# Altium footprint library OpAmp_Pcb.PcbLib: 9 footprints
Each footprint in its own frame and in the unit in brackets; x right, y up, seen from the top. Pads: shape width x height; smd on the part's side, far side on the other; paste and mask are expansions set on the pad; w line width, h text height; cw(c..) or ccw(c..) is an arc to the next point about the centre after c.
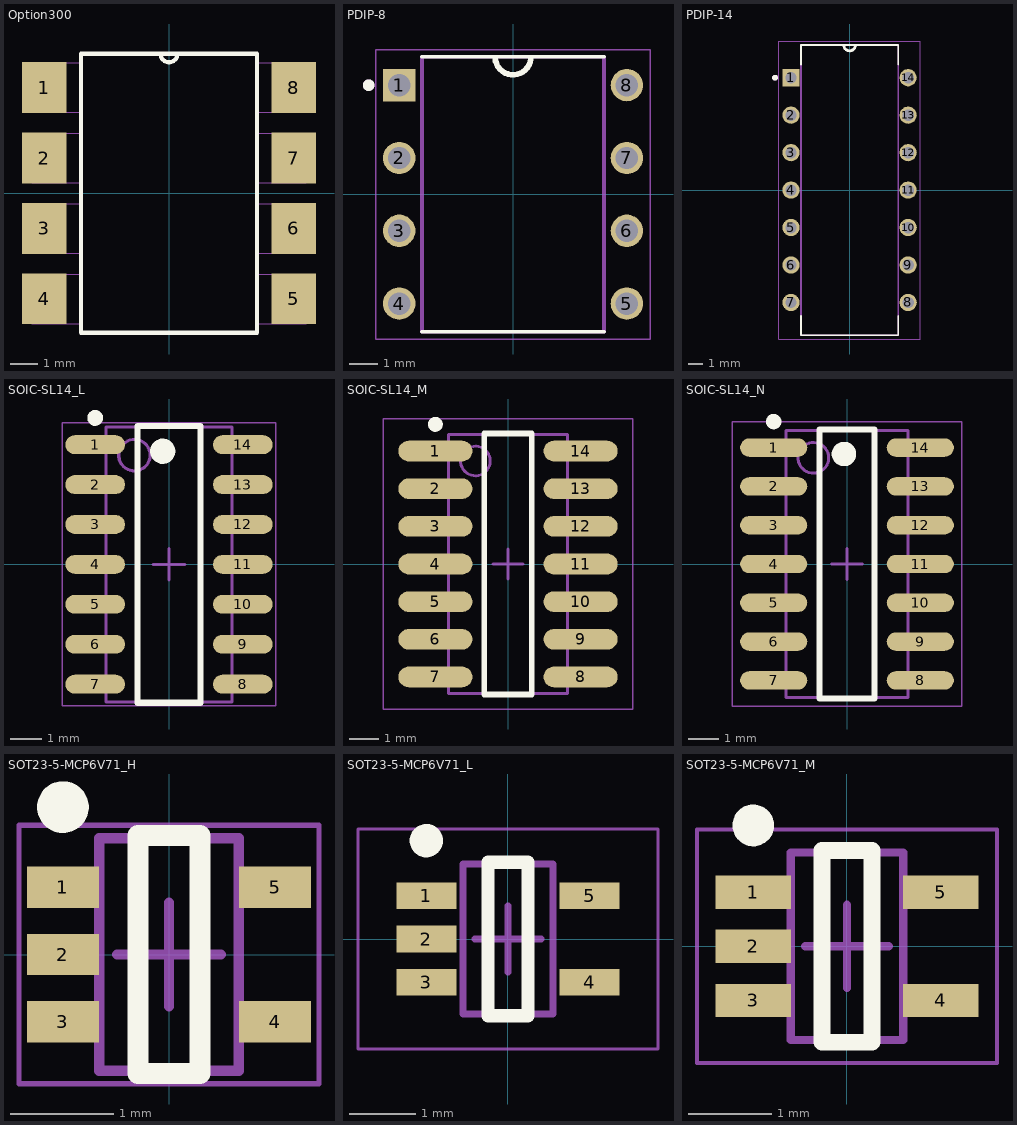
[diagram p0: the footprints below, top view; thin cyan lines are the x and y axes]

## Option300 [mil]
pads (8):
  rect 63x72 smd: 1(-177,150) 2(-177,50) 3(-177,-50) 4(-177,-150) 5(177,-150) 6(177,-50) 7(177,50) 8(177,150)
Top Overlay:
  lines w6: -12,198 ccw(c0,198) 12,198 ; -12,198 12,198 ; -12,198 -125,198 -125,-198 125,-198 125,198 12,198
Mechanical 13:
  lines w0: -12,198 ccw(c0,198) 12,198 ; -12,198 12,198 ; -12,198 -125,198 -125,-198 125,-198 125,198 12,198 ; -195,-185 -195,-115 -125,-115 -125,-185 -195,-185 ; -195,-85 -195,-15 -125,-15 -125,-85 -195,-85 ; -195,15 -195,85 -125,85 -125,15 -195,15 ; -195,115 -195,185 -125,185 -125,115 -195,115 ; 125,-185 125,-115 195,-115 195,-185 125,-185 ; 125,-85 125,-15 195,-15 195,-85 125,-85 ; 125,15 125,85 195,85 195,15 125,15 ; 125,115 125,185 195,185 195,115 125,115
3D body "Option300.STEP": height 151.57, standoff 0, extent -199.99,-190.94 200.01,190.95

## PDIP-8 [mm]
pads (8):
  rect 1.13x1.13 hole 0.78: 1(-3.97,3.81)
  round 1.13 hole 0.78: 2(-3.97,1.27) 3(-3.97,-1.27) 4(-3.97,-3.81) 5(3.97,-3.81) 6(3.97,-1.27) 7(3.97,1.27) 8(3.97,3.81)
Top Overlay:
  circle w0.2: c-5.035,3.81 r0.1
  lines w0.127: -3.175,-4.795 3.175,-4.795 ; -3.175,4.795 3.175,4.795
  lines w0.2: -0.624,4.753 ccw(c0,4.795) 0.621,4.723
Mechanical 13:
  circle w0.2: c-5.035,3.81 r0.1
  lines w0.127: -3.175,-4.795 3.175,-4.795 3.175,4.795 -3.175,4.795 -3.175,-4.795
Mechanical 15:
  lines w0.05: -4.785,-5.045 4.785,-5.045 4.785,5.045 -4.785,5.045 -4.785,-5.045
3D body "PDIP-8_V2.step": height 5.1, standoff -3.18, extent -4.13,-5 4.13,5

## PDIP-14 [mm]
pads (14):
  rect 1.17x1.17 hole 0.77: 1(-3.97,7.62)
  round 1.17 hole 0.77: 2(-3.97,5.08) 3(-3.97,2.54) 4(-3.97,0) 5(-3.97,-2.54) 6(-3.97,-5.08) 7(-3.97,-7.62) 8(3.97,-7.62) 9(3.97,-5.08) 10(3.97,-2.54) 11(3.97,0) 12(3.97,2.54) 13(3.97,5.08) 14(3.97,7.62)
Top Overlay:
  circle w0.2: c-5.055,7.62 r0.1
  lines w0.127: -3.3,-8.525 -3.3,-9.845 3.3,-9.845 3.3,-8.525 ; -3.3,8.525 -3.3,9.845 3.3,9.845 3.3,8.525
  lines w0.2: -0.398,9.803 ccw(c0,9.845) 0.395,9.776
Mechanical 13:
  circle w0.2: c-5.055,7.62 r0.1
  lines w0.127: -3.3,-9.845 -3.3,9.845 3.3,9.845 3.3,-9.845 -3.3,-9.845
Mechanical 15:
  lines w0.05: -4.805,-10.095 -4.805,10.095 4.805,10.095 4.805,-10.095 -4.805,-10.095
3D body "DIP-14.step": height 3.31, standoff -3.67, extent -4,-9.525 4,9.525

## SOIC-SL14_L [mm] "SOIC, 14-Leads, Body 8.7x3.9mm, Pitch 1.27mm, IPC High Density"
height 1.75
pads (14):
  oval 1.9x0.6 smd: 1(-2.35,3.81) 2(-2.35,2.54) 3(-2.35,1.27) 4(-2.35,0) 5(-2.35,-1.27) 6(-2.35,-2.54) 7(-2.35,-3.81) 8(2.35,-3.81) 9(2.35,-2.54) 10(2.35,-1.27) 11(2.35,0) 12(2.35,1.27) 13(2.35,2.54) 14(2.35,3.81)
Top Overlay:
  circle w0.25: c-2.35,4.66 r0.125
  circle w0.4: c-0.2,3.6 r0.2
  lines w0.2: -1,-4.4 -1,4.4 1,4.4 1,-4.4 -1,-4.4
Mechanical 13:
  circle w0.1: c-1.1,3.475 r0.5
  lines w0.1: -2,-4.375 -2,4.375 2,4.375 2,-4.375 -2,-4.375
Mechanical 15:
  lines w0.05: -3.4,-4.5 -3.4,4.5 3.4,4.5 3.4,-4.5 -3.4,-4.5
  lines w0.1: -0.5,0 0.5,0 ; 0,-0.5 0,0.5
3D body "SOIC14-150.step": height 1.75, standoff 0, extent -2.9,-4.265 2.9,4.265

## SOIC-SL14_M [mm] "SOIC, 14-Leads, Body 8.7x3.9mm, Pitch 1.27mm, IPC Low Density"
height 1.75
pads (14):
  oval 2.5x0.7 smd: 1(-2.45,3.81) 2(-2.45,2.54) 3(-2.45,1.27) 4(-2.45,0) 5(-2.45,-1.27) 6(-2.45,-2.54) 7(-2.45,-3.81) 8(2.45,-3.81) 9(2.45,-2.54) 10(2.45,-1.27) 11(2.45,0) 12(2.45,1.27) 13(2.45,2.54) 14(2.45,3.81)
Top Overlay:
  circle w0.25: c-2.45,4.71 r0.125
  lines w0.2: -0.8,-4.4 -0.8,4.4 0.8,4.4 0.8,-4.4 -0.8,-4.4
Mechanical 13:
  circle w0.1: c-1.1,3.475 r0.5
  lines w0.1: -2,-4.375 -2,4.375 2,4.375 2,-4.375 -2,-4.375
Mechanical 15:
  lines w0.05: -4.2,-4.9 -4.2,4.9 4.2,4.9 4.2,-4.9 -4.2,-4.9
  lines w0.1: -0.5,0 0.5,0 ; 0,-0.5 0,0.5
3D body "SOIC14-150.step": height 1.75, standoff 0, extent -2.9,-4.265 2.9,4.265

## SOIC-SL14_N [mm] "SOIC, 14-Leads, Body 8.7x3.9mm, Pitch 1.27mm, IPC Medium Density"
height 1.75
pads (14):
  oval 2.2x0.6 smd: 1(-2.4,3.81) 2(-2.4,2.54) 3(-2.4,1.27) 4(-2.4,0) 5(-2.4,-1.27) 6(-2.4,-2.54) 7(-2.4,-3.81) 8(2.4,-3.81) 9(2.4,-2.54) 10(2.4,-1.27) 11(2.4,0) 12(2.4,1.27) 13(2.4,2.54) 14(2.4,3.81)
Top Overlay:
  circle w0.25: c-2.4,4.66 r0.125
  circle w0.4: c-0.1,3.6 r0.2
  lines w0.2: -0.9,-4.4 -0.9,4.4 0.9,4.4 0.9,-4.4 -0.9,-4.4
Mechanical 13:
  circle w0.1: c-1.1,3.475 r0.5
  lines w0.1: -2,-4.375 -2,4.375 2,4.375 2,-4.375 -2,-4.375
Mechanical 15:
  lines w0.05: -3.75,-4.65 -3.75,4.65 3.75,4.65 3.75,-4.65 -3.75,-4.65
  lines w0.1: -0.5,0 0.5,0 ; 0,-0.5 0,0.5
3D body "SOIC14-150.step": height 1.75, standoff 0, extent -2.9,-4.265 2.9,4.265

## SOT23-5-MCP6V71_H [mm]
height 0.8
pads (5):
  rect 0.7x0.4 smd: 1(-1.025,0.65) 2(-1.025,0) 3(-1.025,-0.65) 4(1.025,-0.65) 5(1.025,0.65)
Top Overlay:
  circle w0.25: c-1.025,1.425 r0.125
  lines w0.2: -0.3,-1.15 0.3,-1.15 0.3,1.15 -0.3,1.15 -0.3,-1.15
Mechanical 13:
  lines w0.1: -0.675,-1.125 -0.675,1.125 0.675,1.125 0.675,-1.125 -0.675,-1.125
Mechanical 15:
  lines w0.05: -1.45,-1.25 -1.45,1.25 1.45,1.25 1.45,-1.25 -1.45,-1.25
  lines w0.1: -0.5,0 0.5,0 ; 0,-0.5 0,0.5
3D body "SC70-5-V1.step": height 0.95, standoff 0, extent -1.05,-1 1.05,1

## SOT23-5-MCP6V71_L [mm]
height 0.8
pads (5):
  rect 0.9x0.4 smd: 1(-1.225,0.65) 2(-1.225,0) 3(-1.225,-0.65) 4(1.225,-0.65) 5(1.225,0.65)
Top Overlay:
  circle w0.25: c-1.225,1.475 r0.125
  lines w0.2: -0.3,-1.15 -0.3,1.15 0.3,1.15 0.3,-1.15 -0.3,-1.15
Mechanical 13:
  lines w0.1: -0.675,-1.125 0.675,-1.125 0.675,1.125 -0.675,1.125 -0.675,-1.125
Mechanical 15:
  lines w0.05: -2.25,-1.65 2.25,-1.65 2.25,1.65 -2.25,1.65 -2.25,-1.65
  lines w0.1: -0.5,0 0.5,0 ; 0,-0.5 0,0.5
3D body "SC70-5-V1.step": height 0.95, standoff 0, extent -1.05,-1 1.05,1

## SOT23-5-MCP6V71_M [mm]
height 0.8
pads (5):
  rect 0.9x0.4 smd: 1(-1.125,0.65) 2(-1.125,0) 3(-1.125,-0.65) 4(1.125,-0.65) 5(1.125,0.65)
Top Overlay:
  circle w0.25: c-1.125,1.45 r0.125
  lines w0.2: -0.3,-1.15 0.3,-1.15 0.3,1.15 -0.3,1.15 -0.3,-1.15
Mechanical 13:
  lines w0.1: -0.675,-1.125 -0.675,1.125 0.675,1.125 0.675,-1.125 -0.675,-1.125
Mechanical 15:
  lines w0.05: -1.8,-1.4 -1.8,1.4 1.8,1.4 1.8,-1.4 -1.8,-1.4
  lines w0.1: -0.5,0 0.5,0 ; 0,-0.5 0,0.5
3D body "SC70-5-V1.step": height 0.95, standoff 0, extent -1.05,-1 1.05,1